# EAGLE library part FPC_CONN_18PIN (library _dc801)
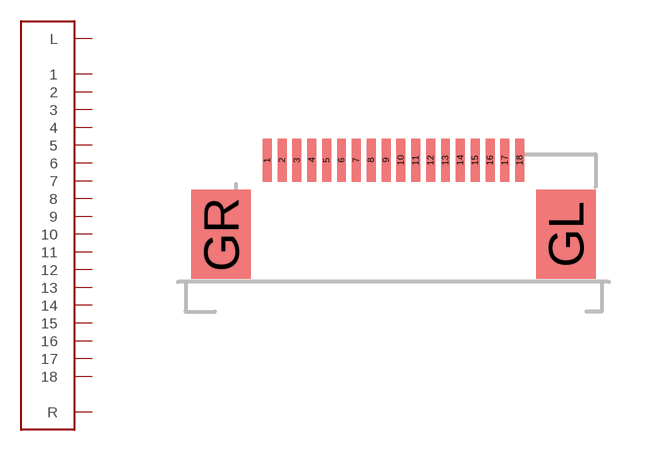
[diagram p0: symbol with the pads of FPC_CONN_18PIN_0.5MM_SMT; footprint FPC_CONN_18PIN_0.5MM_SMT]

Designator prefix CN

## FPC_CONN_18PIN_0.5MM_SMT  [FPC_CONN_18PIN_0.5MM_SMT]
1  1
2  2
3  3
4  4
5  5
6  6
7  7
8  8
9  9
10  10
11  11
12  12
13  13
14  14
15  15
16  16
17  17
18  18
GL  L
GR  R

## Footprint FPC_CONN_18PIN_0.5MM_SMT (pad centres in mm)
smd 0.3 x 1.45: 1 -4.25,4.1; 2 -3.75,4.1; 3 -3.25,4.1; 4 -2.75,4.1; 5 -2.25,4.1; 6 -1.75,4.1; 7 -1.25,4.1; 8 -0.75,4.1; 9 -0.25,4.1; 10 0.25,4.1; 11 0.75,4.1; 12 1.25,4.1; 13 1.75,4.1; 14 2.25,4.1; 15 2.75,4.1; 16 3.25,4.1; 17 3.75,4.1; 18 4.25,4.1
smd 2 x 3: GL 5.8,1.6; GR -5.8,1.6